# Altium schematic symbol library SamacSys.SchLib: 124 symbols (part 2 of 2)
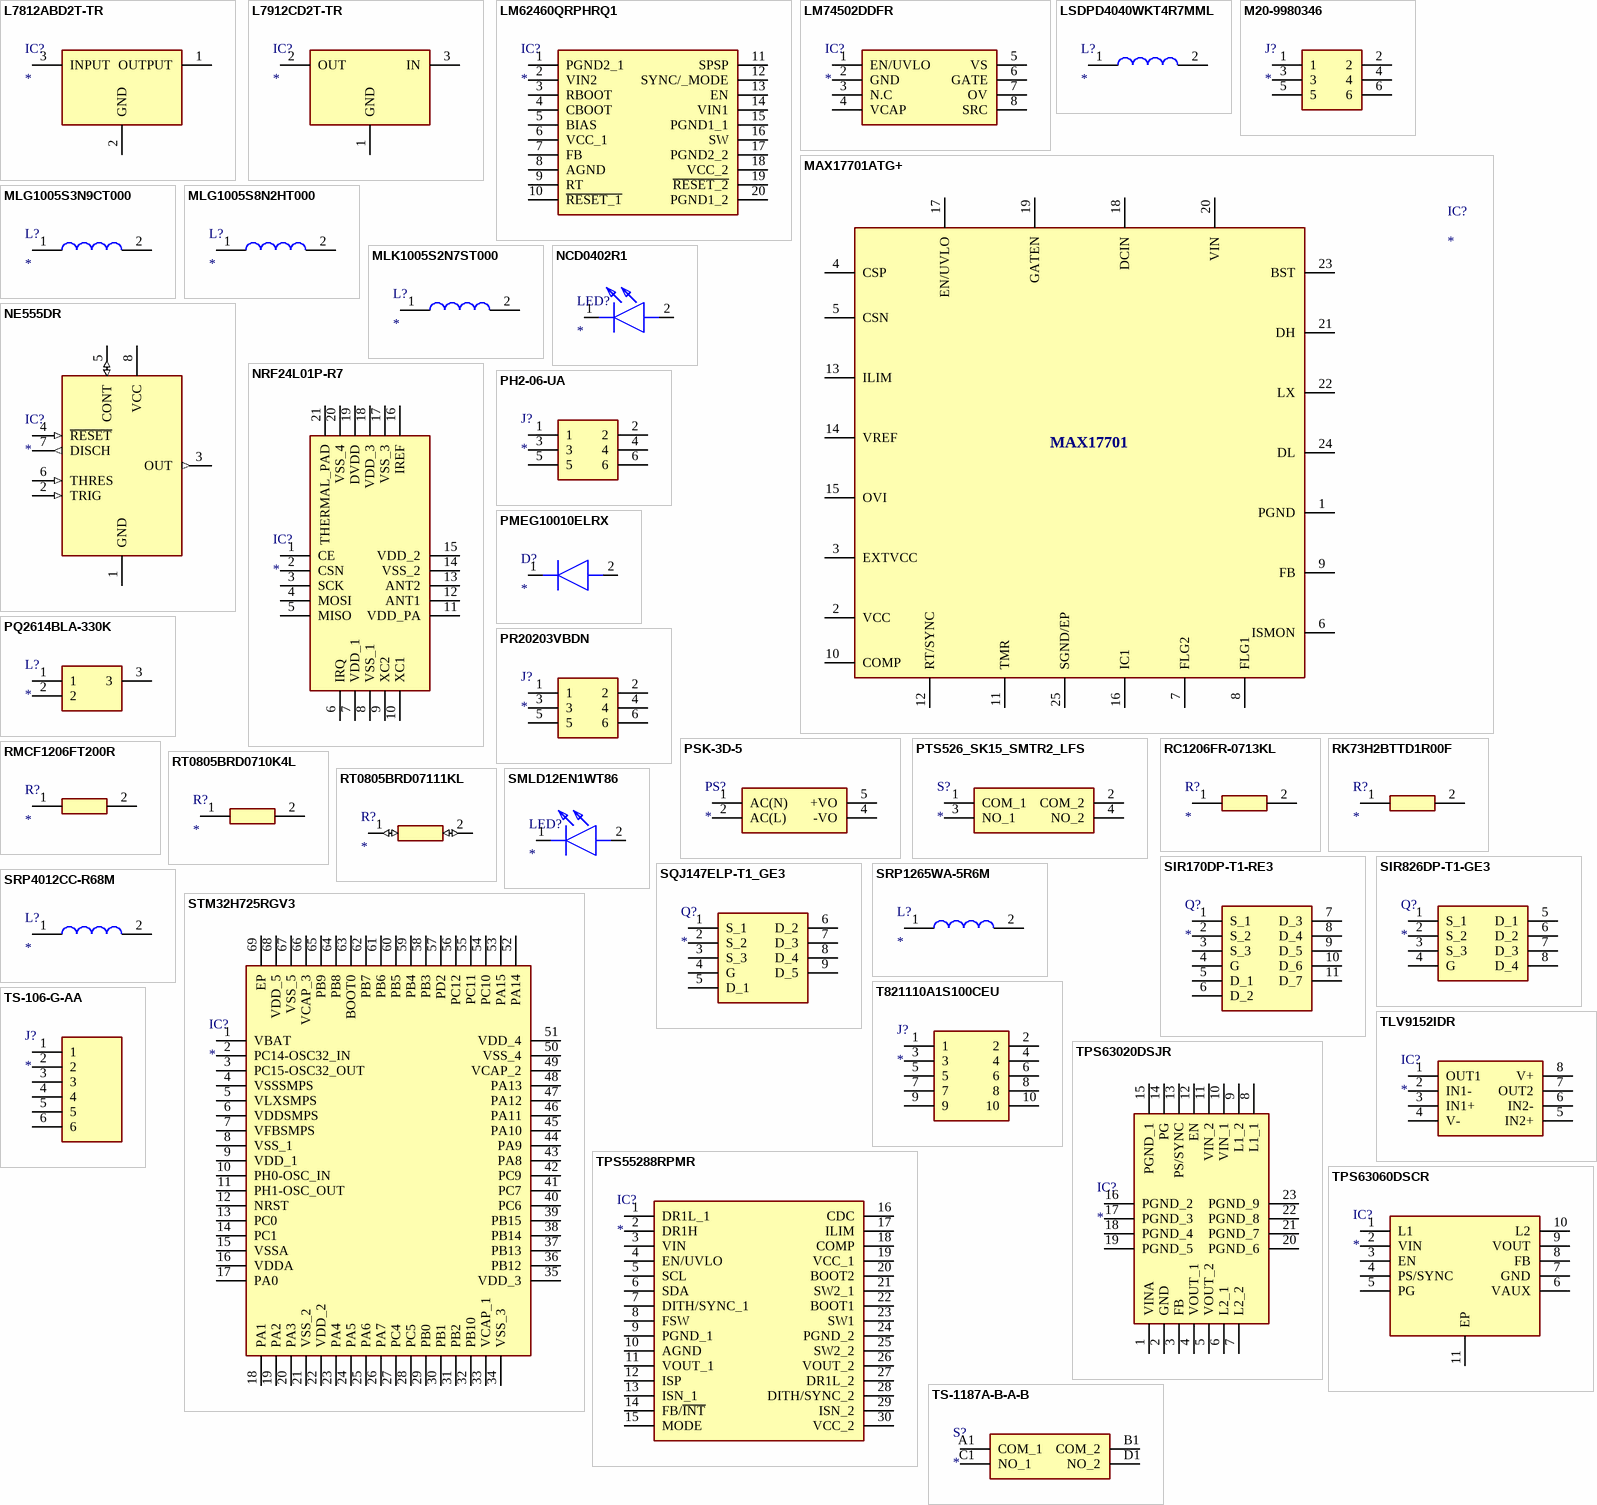
[diagram p4: symbols L7812ABD2T-TR to TS-1187A-B-A-B]

## PSK-3D-5
designator PS?
Power Supply; Manufacturer_Name: CUI Inc.; Manufacturer_Part_Number: PSK-3D-5; Datasheet Link: https://www.cui.com/product/resource/psk-3d.pdf; Height: 18.1mm; Mouser Part Number: 490-PSK-3D-5; Mouser Price/Stock: https://www.mouser.co.uk/ProductDetail/CUI-Inc/PSK-3D-5?qs=DRkmTr78QARPDdufQrhZuw%3D%3D; Arrow Part Number: PSK-3D-5; Arrow Price/Stock: https://www.arrow.com/en/products/psk-3d-5/cui-inc?region=nac
footprint PSK3D5
pins: 1 AC(N), 2 AC(L), 4 -VO, 5 +VO

## PTS526_SK15_SMTR2_LFS
designator S?
Switch; Manufacturer_Name: C & K COMPONENTS; Manufacturer_Part_Number: PTS526 SK15 SMTR2 LFS; Datasheet Link: https://www.ckswitches.com/media/2780/pts526.pdf; Height: 1.65mm; Mouser Part Number: 611-PTS526SK15SMR2L; Mouser Price/Stock: https://www.mouser.co.uk/ProductDetail/CK/PTS526-SK15-SMTR2-LFS?qs=UXgszm6BlbF5Ezp94JAQtw%3D%3D; Arrow Part Number: PTS526 SK15 SMTR2 LFS; Arrow Price/Stock: https://www.arrow.com/en/products/pts526-sk15-smtr2-lfs/ck?region=nac
footprint PTS526SK15SMTR2LFS
pins: 1 COM_1, 2 COM_2, 3 NO_1, 4 NO_2

## RC1206FR-0713KL
designator R?
Resistor; Manufacturer_Name: KEMET; Manufacturer_Part_Number: RC1206FR-0713KL; Datasheet Link: https://www.sos.sk/productdata/35/10/4/35104/RC1206.pdf; Height: 0.65mm; Mouser Part Number: 603-RC1206FR-0713KL; Mouser Price/Stock: https://www.mouser.co.uk/ProductDetail/Yageo/RC1206FR-0713KL?qs=%2FbpERZPLKKvEuZQr9uTFqA%3D%3D
footprint RESC3116X65N
pins: 1, 2

## RK73H2BTTD1R00F
designator R?
Resistor; Manufacturer_Name: KOA Speer; Manufacturer_Part_Number: RK73H2BTTD1R00F; Datasheet Link: http://www.koaspeer.com/catimages/Products/RK73H/RK73H.pdf; Height: 0.7mm; Mouser Part Number: 660-RK73H2BTTD1R00F; Mouser Price/Stock: https://www.mouser.com/Search/Refine.aspx?Keyword=660-RK73H2BTTD1R00F
footprint RESC3216X70N
pins: 1, 2

## RMCF1206FT200R
designator R?
Resistor; Manufacturer_Name: Stackpole Electronics; Manufacturer_Part_Number: RMCF1206FT200R; Datasheet Link: https://cs.seielect.com/catalog/SEI-RMCF_RMCP.pdf; Height: 0.7mm
footprint RESC3216X70N
pins: 1, 2

## RT0805BRD0710K4L
designator R?
Resistor; Manufacturer_Name: KEMET; Manufacturer_Part_Number: RT0805BRD0710K4L; Datasheet Link: https://www.arrow.com/en/products/rt0805brd0710k4l/yageo; Height: 0.6mm; Mouser Part Number: 603-RT0805BRD0710K4L; Mouser Price/Stock: https://www.mouser.co.uk/ProductDetail/Yageo/RT0805BRD0710K4L?qs=MIKj0bPR1zBRjPJ4x5pJ2A%3D%3D; Arrow Part Number: RT0805BRD0710K4L; Arrow Price/Stock: https://www.arrow.com/en/products/rt0805brd0710k4l/yageo
footprint RESC2012X60N
pins: 1, 2

## RT0805BRD07111KL
designator R?
Resistor; Manufacturer_Name: KEMET; Manufacturer_Part_Number: RT0805BRD07111KL; Datasheet Link: https://componentsearchengine.com/Datasheets/1/RT0805BRD07111KL.pdf; Height: 0.6mm; Mouser Part Number: 603-RT0805BRD07111KL; Mouser Price/Stock: https://www.mouser.co.uk/ProductDetail/Yageo/RT0805BRD07111KL?qs=bQfrgN9vNvxW8OaJGLTFCQ%3D%3D; Arrow Part Number: RT0805BRD07111KL; Arrow Price/Stock: https://www.arrow.com/en/products/rt0805brd07111kl/yageo
footprint RESC2012X60N
pins: 1 (io), 2 (io)

## SIR170DP-T1-RE3
designator Q?
MOSFET (N-Channel); Manufacturer_Name: Vishay; Manufacturer_Part_Number: SIR170DP-T1-RE3; Datasheet Link: https://componentsearchengine.com/Datasheets/1/SIR172ADP-T1-GE3.pdf; Mouser Part Number: 78-SIR170DP-T1-RE3; Mouser Price/Stock: https://www.mouser.co.uk/ProductDetail/Vishay-Semiconductors/SIR170DP-T1-RE3?qs=%252B6g0mu59x7JpyHfvheHFzw%3D%3D
footprint SI7852ADPT1GE3
pins: 1 S_1, 2 S_2, 3 S_3, 4 G, 5 D_1, 6 D_2, 7 D_3, 8 D_4, 9 D_5, 10 D_6, 11 D_7

## SIR826DP-T1-GE3
designator Q?
MOSFET (N-Channel); Manufacturer_Name: Vishay; Manufacturer_Part_Number: SIR826DP-T1-GE3; Datasheet Link: http://www.vishay.com/docs/67196/sir826dp.pdf; Mouser Part Number: 78-SIR826DP-T1-GE3; Mouser Price/Stock: https://www.mouser.co.uk/ProductDetail/Vishay-Semiconductors/SIR826DP-T1-GE3?qs=FfLXECYddQQX8MPZvuXp3g%3D%3D; Arrow Part Number: SIR826DP-T1-GE3; Arrow Price/Stock: https://www.arrow.com/en/products/sir826dp-t1-ge3/vishay
footprint SI7141DPT1GE3
pins: 1 S_1, 2 S_2, 3 S_3, 4 G, 5 D_1, 6 D_2, 7 D_3, 8 D_4

## SMLD12EN1WT86
designator LED?
LED; Manufacturer_Name: ROHM Semiconductor; Manufacturer_Part_Number: SMLD12EN1WT86; Datasheet Link: https://datasheet.datasheetarchive.com/originals/distributors/Datasheets_SAMA/8f824a900f8c9a143b1c3640e6aee7b7.pdf; Height: 0.65mm; Mouser Part Number: 755-SMLD12EN1WT86; Mouser Price/Stock: https://www.mouser.co.uk/ProductDetail/ROHM-Semiconductor/SMLD12EN1WT86?qs=qSfuJ%252Bfl%2Fd4fR%252B9yZydIwg%3D%3D
footprint LEDM168X65N
pins: 1 K, 2 A

## SQJ147ELP-T1_GE3
designator Q?
MOSFET (N-Channel); Manufacturer_Name: Vishay; Manufacturer_Part_Number: SQJ147ELP-T1_GE3; Datasheet Link: https://www.vishay.com/docs/77857/sqj147elp.pdf; Height: 1.227mm; Mouser Part Number: 78-SQJ147ELP-T1_GE3; Mouser Price/Stock: https://www.mouser.co.uk/ProductDetail/Vishay-Siliconix/SQJ147ELP-T1_GE3?qs=81r%252BiQLm7BRdyhBg3DuaKw%3D%3D; Arrow Part Number: SQJ147ELP-T1_GE3; Arrow Price/Stock: https://www.arrow.com/en/products/sqj147elp-t1-ge3/vishay?region=nac
footprint SQJ147ELPT1_GE3
pins: 1 S_1, 2 S_2, 3 S_3, 4 G, 5 D_1, 6 D_2, 7 D_3, 8 D_4, 9 D_5

## SRP1265WA-5R6M
designator L?
Inductor; Manufacturer_Name: Bourns; Manufacturer_Part_Number: SRP1265WA-5R6M; Datasheet Link: http://www.bourns.com/docs/Product-Datasheets/SRP1265WA.pdf; Height: 6.5mm; Mouser Part Number: 652-SRP1265WA-5R6M; Mouser Price/Stock: https://www.mouser.co.uk/ProductDetail/Bourns/SRP1265WA-5R6M?qs=81r%252BiQLm7BQx3ztxL9cqwg%3D%3D
footprint SRP1265WA5R6M
pins: 1, 2

## SRP4012CC-R68M
designator L?
Inductor; Manufacturer_Name: Bourns; Manufacturer_Part_Number: SRP4012CC-R68M; Datasheet Link: https://www.bourns.com/docs/Product-Datasheets/SRP4012CC.pdf; Height: 1.2mm; Mouser Part Number: 652-SRP4012CC-R68M; Mouser Price/Stock: https://www.mouser.co.uk/ProductDetail/Bourns/SRP4012CC-R68M?qs=1Kr7Jg1SGW88iDwpcvewJA%3D%3D; Arrow Part Number: SRP4012CC-R68M; Arrow Price/Stock: https://www.arrow.com/en/products/srp4012cc-r68m/bourns?region=nac
footprint INDPM4441X120N
pins: 1, 2

## STM32H725RGV3
designator IC?
Integrated Circuit; Manufacturer_Name: STMicroelectronics; Manufacturer_Part_Number: STM32H725RGV3; Datasheet Link: https://th.mouser.com/datasheet/2/389/dm00701017-2042007.pdf; Height: 1mm; Mouser Part Number: 511-STM32H725RGV3; Mouser Price/Stock: https://www.mouser.co.uk/ProductDetail/STMicroelectronics/STM32H725RGV3?qs=zW32dvEIR3sFBR9om7cvTQ%3D%3D
footprint QFN40P800X800X100-69N-D
pins: 1 VBAT, 2 PC14-OSC32_IN, 3 PC15-OSC32_OUT, 4 VSSSMPS, 5 VLXSMPS, 6 VDDSMPS, 7 VFBSMPS, 8 VSS_1, 9 VDD_1, 10 PH0-OSC_IN, 11 PH1-OSC_OUT, 12 NRST, 13 PC0, 14 PC1, 15 VSSA, 16 VDDA, 17 PA0, 18 PA1, 19 PA2, 20 PA3, 21 VSS_2, 22 VDD_2, 23 PA4, 24 PA5, 25 PA6, 26 PA7, 27 PC4, 28 PC5, 29 PB0, 30 PB1, 31 PB2, 32 PB10, 33 VCAP_1, 34 VSS_3, 35 VDD_3, 36 PB12, 37 PB13, 38 PB14, 39 PB15, 40 PC6, 41 PC7, 42 PC9, 43 PA8, 44 PA9, 45 PA10, 46 PA11, 47 PA12, 48 PA13, 49 VCAP_2, 50 VSS_4, 51 VDD_4, 52 PA14, 53 PA15, 54 PC10, 55 PC11, 56 PC12, 57 PD2, 58 PB3, 59 PB4, 60 PB5, 61 PB6, 62 PB7, 63 BOOT0, 64 PB8, 65 PB9, 66 VCAP_3, 67 VSS_5, 68 VDD_5, 69 EP

## T821110A1S100CEU
designator J?
Connector; Manufacturer_Name: Amphenol; Manufacturer_Part_Number: T821110A1S100CEU; Datasheet Link: https://docs.rs-online.com/e09c/0900766b81359cba.pdf; Height: 9.15mm; Mouser Part Number: N/A; Mouser Price/Stock: https://www.mouser.co.uk/ProductDetail/Amphenol/T821110A1S100CEU?qs=3IN%252Br8p6BrNf%2FuKCWm44Bg%3D%3D; Arrow Part Number: T821110A1S100CEU; Arrow Price/Stock: https://www.arrow.com/en/products/t821110a1s100ceu/amphenol-fci?region=europe
footprint SHDR10W64P254X254_2X5_2032X895X915P
pins: 1, 2, 3, 4, 5, 6, 7, 8, 9, 10

## TLV9152IDR
designator IC?
Integrated Circuit; Manufacturer_Name: Texas Instruments; Manufacturer_Part_Number: TLV9152IDR; Datasheet Link: https://www.ti.com/lit/ds/symlink/tlv9152.pdf?ts=1618930568043&ref_url=https%253A%252F%252Fwww.mouser.in%252F; Height: 1.75mm; Mouser Part Number: 595-TLV9152IDR; Mouser Price/Stock: https://www.mouser.co.uk/ProductDetail/Texas-Instruments/TLV9152IDR?qs=xZ%2FP%252Ba9zWqYYS%252ByLEi7keQ%3D%3D; Arrow Part Number: TLV9152IDR; Arrow Price/Stock: https://www.arrow.com/en/products/tlv9152idr/texas-instruments?region=nac
footprint SOIC127P600X175-8N
pins: 1 OUT1, 2 IN1-, 3 IN1+, 4 V-, 5 IN2+, 6 IN2-, 7 OUT2, 8 V+

## TPS55288RPMR
designator IC?
Integrated Circuit; Manufacturer_Name: Texas Instruments; Manufacturer_Part_Number: TPS55288RPMR; Datasheet Link: https://www.ti.com/lit/ds/symlink/tps55288.pdf; Height: 1mm; Mouser Part Number: 595-TPS55288RPMR; Mouser Price/Stock: https://www.mouser.co.uk/ProductDetail/Texas-Instruments/TPS55288RPMR?qs=bAKSY%2FctAC57bSsN8PUBnQ%3D%3D; Arrow Part Number: TPS55288RPMR; Arrow Price/Stock: https://www.arrow.com/en/products/tps55288rpmr/texas-instruments?region=nac
footprint TPS55288RPMR
pins: 1 DR1L_1, 2 DR1H, 3 VIN, 4 EN/UVLO, 5 SCL, 6 SDA, 7 DITH/SYNC_1, 8 FSW, 9 PGND_1, 10 AGND, 11 VOUT_1, 12 ISP, 13 ISN_1, 14 FB/~{INT}, 15 MODE, 16 CDC, 17 ILIM, 18 COMP, 19 VCC_1, 20 BOOT2, 21 SW2_1, 22 BOOT1, 23 SW1, 24 PGND_2, 25 SW2_2, 26 VOUT_2, 27 DR1L_2, 28 DITH/SYNC_2, 29 ISN_2, 30 VCC_2

## TPS63020DSJR
designator IC?
Integrated Circuit; Manufacturer_Name: Texas Instruments; Manufacturer_Part_Number: TPS63020DSJR; Datasheet Link: https://www.ti.com/lit/ds/symlink/tps63020.pdf?HQS=dis-dk-null-digikeymode-dsf-pf-null-wwe&ts=1623612296427; Height: 1mm; Mouser Part Number: 595-TPS63020DSJR; Mouser Price/Stock: https://www.mouser.co.uk/ProductDetail/Texas-Instruments/TPS63020DSJR?qs=C44r%252BX3hXgL3LjjgiOMWew%3D%3D; Arrow Part Number: TPS63020DSJR; Arrow Price/Stock: https://www.arrow.com/en/products/tps63020dsjr/texas-instruments?region=nac
footprint TPS63020DSJR
pins: 1 VINA, 2 GND, 3 FB, 4 VOUT_1, 5 VOUT_2, 6 L2_1, 7 L2_2, 8 L1_1, 9 L1_2, 10 VIN_1, 11 VIN_2, 12 EN, 13 PS/SYNC, 14 PG, 15 PGND_1, 16 PGND_2, 17 PGND_3, 18 PGND_4, 19 PGND_5, 20 PGND_6, 21 PGND_7, 22 PGND_8, 23 PGND_9

## TPS63060DSCR
designator IC?
Integrated Circuit; Manufacturer_Name: Texas Instruments; Manufacturer_Part_Number: TPS63060DSCR; Datasheet Link: http://www.ti.com/lit/gpn/tps63060; Height: 0.8mm; Mouser Part Number: 595-TPS63060DSCR; Mouser Price/Stock: https://www.mouser.co.uk/ProductDetail/Texas-Instruments/TPS63060DSCR?qs=3jfYfyvUSwA68pYl7mRJ2w%3D%3D; Arrow Part Number: TPS63060DSCR; Arrow Price/Stock: https://www.arrow.com/en/products/tps63060dscr/texas-instruments?region=nac
footprint SON50P300X300X80-11N-D
pins: 1 L1, 2 VIN, 3 EN, 4 PS/SYNC, 5 PG, 6 VAUX, 7 GND, 8 FB, 9 VOUT, 10 L2, 11 EP

## TS-106-G-AA
designator J?
Connector; Manufacturer_Name: SAMTEC; Manufacturer_Part_Number: TS-106-G-AA; Datasheet Link: http://suddendocs.samtec.com/catalog_english/ts.pdf; Height: 6.76mm; Mouser Part Number: 200-TS106GAA; Mouser Price/Stock: https://www.mouser.com/Search/Refine.aspx?Keyword=200-TS106GAA; Arrow Part Number: TS-106-G-AA; Arrow Price/Stock: https://www.arrow.com/en/products/ts-106-g-aa/samtec
footprint HDRV6W46P0X254_1X6_1524X254X676P
pins: 1, 2, 3, 4, 5, 6

## TS-1187A-B-A-B
designator S?
Switch; Manufacturer_Name: XKB Connectivity; Manufacturer_Part_Number: TS-1187A-B-A-B; Datasheet Link: http://www.helloxkb.com/public/images/pdf/TS-1187A-X-X-X.pdf; Height: 4.05mm
footprint TS1187ABAB
pins: A1 COM_1, B1 COM_2, C1 NO_1, D1 NO_2

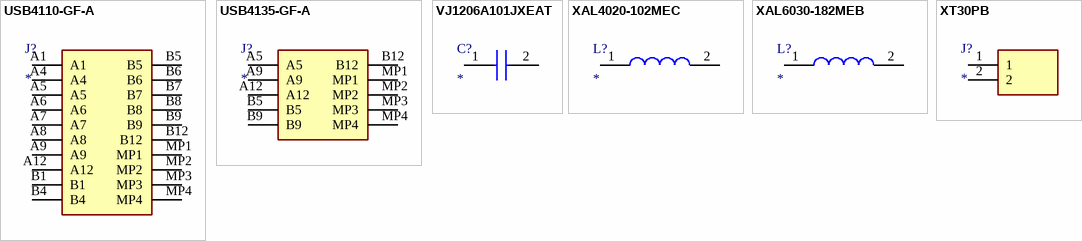
[diagram p3: symbols USB4110-GF-A to XT30PB]

## USB4110-GF-A
designator J?
Connector; Manufacturer_Name: GCT (GLOBAL CONNECTOR TECHNOLOGY); Manufacturer_Part_Number: USB4110-GF-A; Datasheet Link: https://gct.co/files/drawings/usb4110.pdf; Height: 3.26mm; Mouser Part Number: 640-USB4110-GF-A; Mouser Price/Stock: https://www.mouser.co.uk/ProductDetail/GCT/USB4110-GF-A?qs=KUoIvG%2F9IlYiZvIXQjyJeA%3D%3D
footprint USB4110GFA
pins: A1, A4, A5, A6, A7, A8, A9, A12, B1, B4, B5, B6, B7, B8, B9, B12, MP1, MP2, MP3, MP4

## USB4135-GF-A
designator J?
Connector; Manufacturer_Name: GCT (GLOBAL CONNECTOR TECHNOLOGY); Manufacturer_Part_Number: USB4135-GF-A; Datasheet Link: https://ar.mouser.com/datasheet/2/837/usb4135-2930399.pdf; Height: 3.5mm; Mouser Part Number: 640-USB4135-GF-A; Mouser Price/Stock: https://www.mouser.co.uk/ProductDetail/GCT/USB4135-GF-A?qs=Li%252BoUPsLEnt6HRo6RUvaXA%3D%3D
footprint USB4135GFA
pins: A5, A9, A12, B5, B9, B12, MP1, MP2, MP3, MP4

## VJ1206A101JXEAT
designator C?
Capacitor; Manufacturer_Name: Vishay; Manufacturer_Part_Number: VJ1206A101JXEAT; Datasheet Link: http://www.vishay.com/docs/45200/vjhirelseries.pdf; Height: 1.7mm; Mouser Part Number: 77-VJ1206A101JXEAT; Mouser Price/Stock: https://www.mouser.co.uk/ProductDetail/Vishay-Vitramon/VJ1206A101JXEAT?qs=RFK7ThnmtPvk1pY6DbPviw%3D%3D; Arrow Part Number: VJ1206A101JXEAT; Arrow Price/Stock: https://www.arrow.com/en/products/vj1206a101jxeat/vishay
footprint CAPC3216X170N
pins: 1, 2

## XAL4020-102MEC
designator L?
Inductor; Manufacturer_Name: COILCRAFT; Manufacturer_Part_Number: XAL4020-102MEC; Datasheet Link: https://www.coilcraft.com/pdfs/xal4000.pdf; Mouser Part Number: 994-XAL4020-102MEC; Mouser Price/Stock: https://www.mouser.co.uk/ProductDetail/Coilcraft/XAL4020-102MEC?qs=zCSbvcPd3pbLq0M7ZKfPRA%3D%3D
footprint XAL40XX
pins: 1, 2

## XAL6030-182MEB
designator L?
Inductor; Manufacturer_Name: COILCRAFT; Manufacturer_Part_Number: XAL6030-182MEB; Datasheet Link: https://www.coilcraft.com/pdfs/xal60xx.pdf; Height: 3.1mm; Mouser Part Number: 994-XAL6030-182MEB; Mouser Price/Stock: https://www.mouser.co.uk/ProductDetail/Coilcraft/XAL6030-182MEB?qs=VJjuEbE9QBNl9%2F4O4ZhQvg%3D%3D
footprint XAL6030182MEB
pins: 1, 2

## XT30PB
designator J?
Connector; Manufacturer_Name: Amass; Manufacturer_Part_Number: XT30PB; Datasheet Link: https://www.tme.eu/Document/4acc913878197f8c2e30d4b8cdc47230/XT30UPB%20SPEC.pdf; Height: 10.7mm
footprint XT30PB
pins: 1, 2